# Altium footprint library CONNECTORS.PcbLib: 52 footprints (part 3 of 4)
Each footprint in its own frame and in the unit in brackets; x right, y up, seen from the top. Pads: shape width x height; smd on the part's side, far side on the other; paste and mask are expansions set on the pad; w line width, h text height; cw(c..) or ccw(c..) is an arc to the next point about the centre after c.
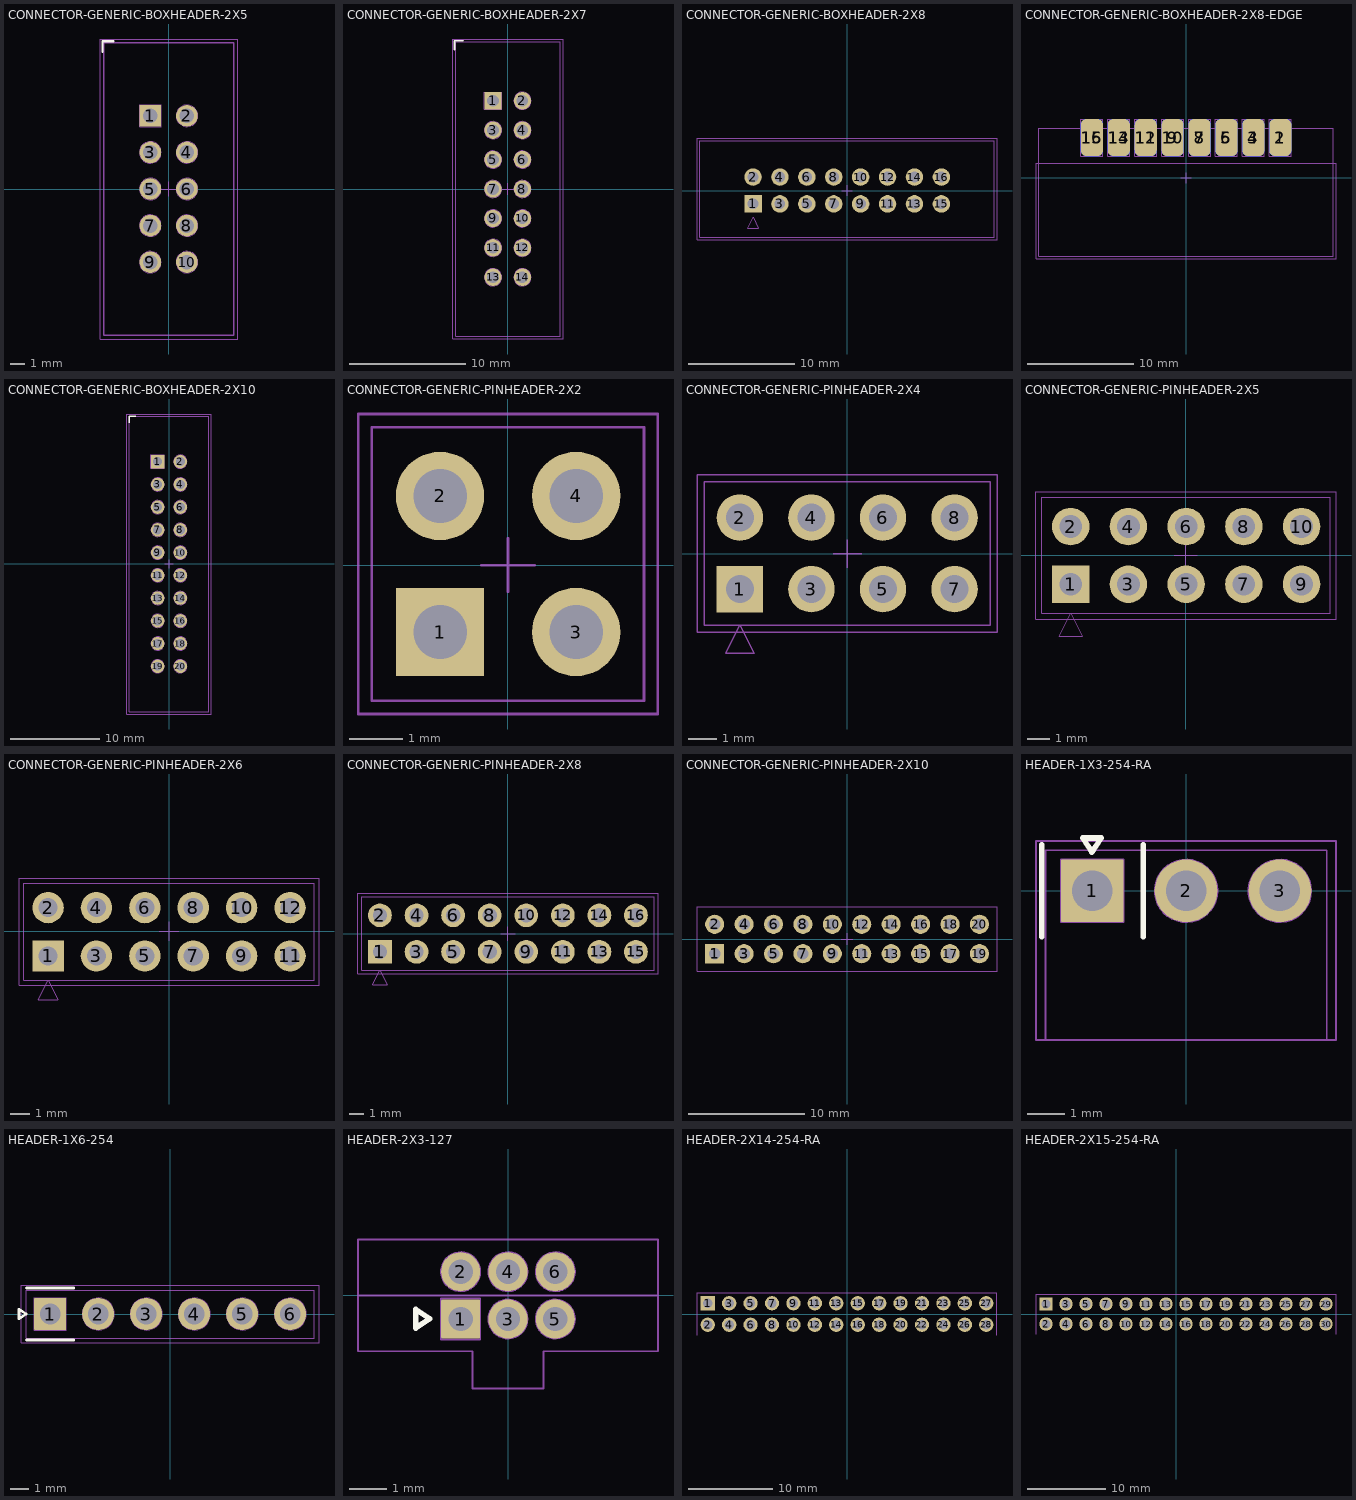
[diagram p2: the footprints below, top view; thin cyan lines are the x and y axes]

## CONNECTOR-GENERIC-BOXHEADER-2X5 [mm] "CONNECTOR GENERIC-BOXHEADER-2X5"
height 9.013
pads (10):
  rect 1.5x1.5 hole 1 mask+0.075: 1(-1.27,5.08)
  round 1.5 hole 1 mask+0.075: 2(1.27,5.08) 3(-1.27,2.54) 4(1.27,2.54) 5(-1.27,0) 6(1.27,0) 7(-1.27,-2.54) 8(1.27,-2.54) 9(-1.27,-5.08) 10(1.27,-5.08)
Top Overlay:
  lines w0.152: -4.6,9.51 -4.6,10.26 -3.85,10.26
Mechanical 13:
  circle w0.05: c-1.27,5.08 r0.5
  circle w0.05: c1.27,5.08 r0.75
  circle w0.05: c1.27,5.08 r0.5
  circle w0.05: c-1.27,2.54 r0.75
  circle w0.05: c-1.27,2.54 r0.5
  circle w0.05: c1.27,2.54 r0.75
  circle w0.05: c1.27,2.54 r0.5
  circle w0.05: c-1.27,0 r0.75
  circle w0.05: c-1.27,0 r0.5
  circle w0.05: c1.27,0 r0.75
  circle w0.05: c1.27,0 r0.5
  circle w0.05: c1.27,-2.54 r0.75
  circle w0.05: c1.27,-2.54 r0.5
  circle w0.05: c-1.27,-5.08 r0.75
  circle w0.05: c-1.27,-5.08 r0.5
  circle w0.05: c1.27,-5.08 r0.75
  circle w0.05: c1.27,-5.08 r0.5
  circle w0.05: c-1.27,-2.54 r0.75
  circle w0.05: c-1.27,-2.54 r0.5
  lines w0.05: -2.02,4.33 -0.52,4.33 -0.52,5.83 -2.02,5.83 -2.02,4.33
  lines w0.1: -4.5,-10.16 4.53,-10.16 4.53,10.16 -4.5,10.16 -4.5,-10.16
  text "1" at -2.02,4.33 h0.3
Mechanical 15:
  lines w0.05: -0.5,0 0,0 ; 0,-0.5 0,0 ; 0,0.5 0,0 ; 0.5,0 0,0 ; -4.75,-10.41 4.8,-10.41 4.8,10.41 -4.75,10.41 -4.75,-10.41
3D body "SBH11-PBPC-D05-ST-BK.STEP": height 9.11, standoff -2.98, extent -4.394,-10.096 4.699,10.096

## CONNECTOR-GENERIC-BOXHEADER-2X7 [mm] "CONNECTOR GENERIC-BOXHEADER-2X7"
height 9.013
pads (14):
  rect 1.5x1.5 hole 1 mask+0.075: 1(-1.27,7.62)
  round 1.5 hole 1 mask+0.075: 2(1.27,7.62) 3(-1.27,5.08) 4(1.27,5.08) 5(-1.27,2.54) 6(1.27,2.54) 7(-1.27,0) 8(1.27,0) 9(-1.27,-2.54) 10(1.27,-2.54) 11(-1.27,-5.08) 12(1.27,-5.08) 13(-1.27,-7.62) 14(1.27,-7.62)
Top Overlay:
  lines w0.152: -4.6,12.05 -4.6,12.8 -3.85,12.8
Mechanical 13:
  circle w0.05: c-1.27,7.62 r0.5
  circle w0.05: c1.27,7.62 r0.75
  circle w0.05: c1.27,7.62 r0.5
  circle w0.05: c-1.27,5.08 r0.75
  circle w0.05: c-1.27,5.08 r0.5
  circle w0.05: c1.27,5.08 r0.75
  circle w0.05: c1.27,5.08 r0.5
  circle w0.05: c-1.27,2.54 r0.75
  circle w0.05: c-1.27,2.54 r0.5
  circle w0.05: c1.27,2.54 r0.75
  circle w0.05: c1.27,2.54 r0.5
  circle w0.05: c1.27,0 r0.75
  circle w0.05: c1.27,0 r0.5
  circle w0.05: c-1.27,-2.54 r0.75
  circle w0.05: c-1.27,-2.54 r0.5
  circle w0.05: c1.27,-2.54 r0.75
  circle w0.05: c1.27,-2.54 r0.5
  circle w0.05: c-1.27,-5.08 r0.75
  circle w0.05: c-1.27,-5.08 r0.5
  circle w0.05: c1.27,-5.08 r0.75
  circle w0.05: c1.27,-5.08 r0.5
  circle w0.05: c-1.27,-7.62 r0.75
  circle w0.05: c-1.27,-7.62 r0.5
  circle w0.05: c1.27,-7.62 r0.75
  circle w0.05: c1.27,-7.62 r0.5
  circle w0.05: c-1.27,0 r0.75
  circle w0.05: c-1.27,0 r0.5
  lines w0.05: -2.02,6.87 -0.52,6.87 -0.52,8.37 -2.02,8.37 -2.02,6.87
  lines w0.1: -4.5,-12.7 4.53,-12.7 4.53,12.7 -4.5,12.7 -4.5,-12.7
  text "1" at -2.02,6.87 h0.3
  text ".DESIGNATOR" at -4.5,-12.7 h0.25
Mechanical 15:
  lines w0.05: -0.5,0 0,0 ; 0,-0.5 0,0 ; 0,0.5 0,0 ; 0.5,0 0,0 ; -4.75,-12.95 4.8,-12.95 4.8,12.95 -4.75,12.95 -4.75,-12.95
3D body "BOXHDR14.STEP": height 9.01, standoff -2.89, extent -4.5,-12.7 4.53,12.7

## CONNECTOR-GENERIC-BOXHEADER-2X8 [mm] "CONNECTOR GENERIC-BOXHEADER-2X8"
height 9.263
pads (16):
  rect 1.65x1.65 hole 1 mask+0.1: 1(-8.883,-1.258)
  round 1.65 hole 1 mask+0.1: 2(-8.883,1.282) 3(-6.343,-1.258) 4(-6.343,1.282) 5(-3.803,-1.258) 6(-3.803,1.282) 7(-1.263,-1.258) 8(-1.263,1.282) 9(1.277,-1.258) 10(1.277,1.282) 11(3.817,-1.258) 12(3.817,1.282) 13(6.357,-1.258) 14(6.357,1.282) 15(8.897,-1.258) 16(8.897,1.282)
Top Courtyard:
  lines w0.05: -0.5,0 0.5,0 ; 0,-0.5 0,0.5 ; -14.175,-4.65 -14.175,4.95 14.15,4.95 14.15,-4.65 -6.772,-4.65 -14.175,-4.65
Top Assembly:
  lines w0.05: -13.92,-4.4 -13.92,4.7 13.9,4.7 13.9,-4.4 -13.92,-4.4 ; -9.391,-3.544 -8.375,-3.544 -8.883,-2.528 -9.391,-3.544
3D body "sbh11-pbpc-d08-st-bk.stp": height 9.11, standoff -2.99, extent -13.92,-4.4 13.9,4.7

## CONNECTOR-GENERIC-BOXHEADER-2X8-EDGE [mm] "CONNECTOR GENERIC-BOXHEADER-2X8"
height 9.263
pads (16):
  rrect50% 2.08x3.5 smd paste-2539.97 mask+0.05: 1(8.89,3.81) 3(6.35,3.81) 5(3.81,3.81) 7(1.27,3.81) 9(-1.27,3.81) 11(-3.81,3.81) 13(-6.35,3.81) 15(-8.89,3.81)
  rrect50% 2.08x3.5 smd far side paste-2539.97 mask+0.05: 2(8.89,3.81) 4(6.35,3.81) 6(3.81,3.81) 8(1.27,3.81) 10(-1.27,3.81) 12(-3.81,3.81) 14(-6.35,3.81) 16(-8.89,3.81)
Top Courtyard:
  lines w0.05: -0.5,0 0,0 ; 0,-0.5 0,0 ; 0,0.5 0,0 ; 0.5,0 0,0 ; -14.17,-7.65 14.15,-7.65 14.15,1.4 -14.17,1.4 -14.17,-7.65
  text "BOARD EDGE" at 1.325,0.641 h1
Top Assembly:
  lines w0.05: -9.93,2.06 -9.93,5.56 ; -9.93,2.06 -7.85,2.06 ; -9.93,2.06 -7.85,2.06 ; -9.93,2.06 -9.93,5.56 ; -9.93,5.56 -7.85,5.56 ; -9.93,5.56 -7.85,5.56 ; -7.85,2.06 -7.85,5.56 ; -7.85,2.06 -7.85,5.56 ; -7.39,2.06 -7.39,5.56 ; -7.39,2.06 -5.31,2.06 ; -7.39,2.06 -5.31,2.06 ; -7.39,2.06 -7.39,5.56 ; -7.39,5.56 -5.31,5.56 ; -7.39,5.56 -5.31,5.56 ; -5.31,2.06 -5.31,5.56 ; -5.31,2.06 -5.31,5.56 ; -4.85,2.06 -4.85,5.56 ; -4.85,2.06 -2.77,2.06 ; -4.85,2.06 -2.77,2.06 ; -4.85,2.06 -4.85,5.56 ; -4.85,5.56 -2.77,5.56 ; -4.85,5.56 -2.77,5.56 ; -2.77,2.06 -2.77,5.56 ; -2.77,2.06 -2.77,5.56 ; -2.31,2.06 -2.31,5.56 ; -2.31,2.06 -0.23,2.06 ; -2.31,2.06 -0.23,2.06 ; -2.31,2.06 -2.31,5.56 ; -2.31,5.56 -0.23,5.56 ; -2.31,5.56 -0.23,5.56 ; -0.23,2.06 -0.23,5.56 ; -0.23,2.06 -0.23,5.56 ; 0.23,2.06 0.23,5.56 ; 0.23,2.06 2.31,2.06 ; 0.23,2.06 2.31,2.06 ; 0.23,2.06 0.23,5.56 ; 0.23,5.56 2.31,5.56 ; 0.23,5.56 2.31,5.56 ; 2.31,2.06 2.31,5.56 ; 2.31,2.06 2.31,5.56 ; 2.77,2.06 2.77,5.56 ; 2.77,2.06 4.85,2.06 ; 2.77,2.06 4.85,2.06 ; 2.77,2.06 2.77,5.56 ; 2.77,5.56 4.85,5.56 ; 2.77,5.56 4.85,5.56 ; 4.85,2.06 4.85,5.56 ; 4.85,2.06 4.85,5.56 ; 5.31,2.06 5.31,5.56 ; 5.31,2.06 7.39,2.06 ; 5.31,2.06 7.39,2.06 ; 5.31,2.06 5.31,5.56 ; 5.31,5.56 7.39,5.56 ; 5.31,5.56 7.39,5.56 ; 7.39,2.06 7.39,5.56 ; 7.39,2.06 7.39,5.56 ; 7.85,2.06 7.85,5.56 ; 7.85,2.06 9.93,2.06 ; 7.85,2.06 9.93,2.06 ; 7.85,2.06 7.85,5.56 ; 7.85,5.56 9.93,5.56 ; 7.85,5.56 9.93,5.56 ; 9.93,2.06 9.93,5.56 ; 9.93,2.06 9.93,5.56 ; -13.92,-7.4 13.9,-7.4 13.9,4.7 -13.92,4.7 -13.92,-7.4
3D body "sbh11-pbpc-d08-st-bk.stp": height 3.46, standoff -5.64, extent -13.92,-7.4 13.9,4.7

## CONNECTOR-GENERIC-BOXHEADER-2X10 [mm] "CONNECTOR GENERIC-BOXHEADER-2X10"
height 8.813
pads (20):
  rect 1.5x1.5 hole 1 mask+0.075: 1(-1.27,11.43)
  round 1.5 hole 1 mask+0.075: 2(1.27,11.43) 3(-1.27,8.89) 4(1.27,8.89) 5(-1.27,6.35) 6(1.27,6.35) 7(-1.27,3.81) 8(1.27,3.81) 9(-1.27,1.27) 10(1.27,1.27) 11(-1.27,-1.27) 12(1.27,-1.27) 13(-1.27,-3.81) 14(1.27,-3.81) 15(-1.27,-6.35) 16(1.27,-6.35) 17(-1.27,-8.89) 18(1.27,-8.89) 19(-1.27,-11.43) 20(1.27,-11.43)
Top Overlay:
  lines w0.152: -4.45,15.76 -4.45,16.51 -3.7,16.51
Mechanical 13:
  circle w0.05: c-1.27,-6.35 r0.5
  circle w0.05: c-1.27,-6.35 r0.75
  circle w0.05: c1.27,-6.35 r0.5
  circle w0.05: c1.27,-6.35 r0.75
  circle w0.05: c-1.27,-8.89 r0.5
  circle w0.05: c-1.27,-8.89 r0.75
  circle w0.05: c1.27,-8.89 r0.5
  circle w0.05: c1.27,-8.89 r0.75
  circle w0.05: c-1.27,-11.43 r0.5
  circle w0.05: c-1.27,-11.43 r0.75
  circle w0.05: c1.27,-11.43 r0.5
  circle w0.05: c1.27,-11.43 r0.75
  circle w0.05: c-1.27,3.81 r0.5
  circle w0.05: c-1.27,3.81 r0.75
  circle w0.05: c1.27,-3.81 r0.5
  circle w0.05: c1.27,-3.81 r0.75
  circle w0.05: c-1.27,-3.81 r0.5
  circle w0.05: c-1.27,-3.81 r0.75
  circle w0.05: c1.27,-1.27 r0.5
  circle w0.05: c1.27,-1.27 r0.75
  circle w0.05: c-1.27,-1.27 r0.5
  circle w0.05: c-1.27,-1.27 r0.75
  circle w0.05: c1.27,1.27 r0.5
  circle w0.05: c1.27,1.27 r0.75
  circle w0.05: c-1.27,1.27 r0.5
  circle w0.05: c-1.27,1.27 r0.75
  circle w0.05: c1.27,3.81 r0.5
  circle w0.05: c1.27,3.81 r0.75
  circle w0.05: c1.27,6.35 r0.5
  circle w0.05: c1.27,6.35 r0.75
  circle w0.05: c-1.27,6.35 r0.5
  circle w0.05: c-1.27,6.35 r0.75
  circle w0.05: c1.27,8.89 r0.5
  circle w0.05: c1.27,8.89 r0.75
  circle w0.05: c-1.27,8.89 r0.5
  circle w0.05: c-1.27,8.89 r0.75
  circle w0.05: c1.27,11.43 r0.5
  circle w0.05: c1.27,11.43 r0.75
  circle w0.05: c-1.27,11.43 r0.5
  lines w0.05: -2.02,10.68 -2.02,12.18 -0.52,12.18 -0.52,10.68 -2.02,10.68
  lines w0.1: -4.45,-16.51 -4.45,16.51 4.45,16.51 4.45,-16.51 -4.45,-16.51
  text "1" at -2.02,10.68 h0.3
Mechanical 15:
  lines w0.05: -0.5,0 0,0 ; 0,-0.5 0,0 ; 0,0.5 0,0 ; 0.5,0 0,0 ; -4.7,-16.765 -4.7,16.76 4.7,16.76 4.7,-16.765 -4.7,-16.765
3D body "boxheader20.STEP": height 8.81, standoff -3.03, extent -4.45,-16.51 4.45,16.51

## CONNECTOR-GENERIC-PINHEADER-2X2 [mm] "CONNECTOR GENERIC-PINHEADER-2X2"
height 9.263
pads (4):
  rect 1.65x1.65 hole 1 mask+0.1: 1(-1.267,-1.249)
  round 1.65 hole 1 mask+0.1: 2(-1.267,1.291) 3(1.273,-1.249) 4(1.273,1.291)
Top Courtyard:
  lines w0.05: -2.792,-2.779 -1.017,-2.779 2.795,-2.779 2.795,2.821 -2.792,2.821 -2.792,-2.779
Top Assembly:
  lines w0.05: -2.542,-2.529 2.54,-2.529 2.54,2.571 -2.542,2.571 -2.542,-2.529
Mechanical 15:
  lines w0.05: -0.499,-0.004 0.501,-0.004 ; 0.001,-0.5 0.001,0.5
3D body "header2x2.STEP": height 9.26, standoff -2.89, extent -2.539,-2.54 2.541,2.54

## CONNECTOR-GENERIC-PINHEADER-2X4 [mm] "CONNECTOR GENERIC-PINHEADER-2X4"
height 9.263
pads (8):
  rect 1.65x1.65 hole 1 mask+0.1: 1(-3.818,-1.259)
  round 1.65 hole 1 mask+0.1: 2(-3.818,1.281) 3(-1.278,-1.259) 4(-1.278,1.281) 5(1.262,-1.259) 6(1.262,1.281) 7(3.802,-1.259) 8(3.802,1.281)
Top Courtyard:
  lines w0.05: -0.497,-0.001 0.503,-0.001 ; 0.001,-0.499 0.001,0.501 ; -5.343,-2.789 -5.343,2.811 5.31,2.811 5.31,-2.789 -3.568,-2.789 -5.343,-2.789
Top Assembly:
  lines w0.05: -5.093,-2.539 5.07,-2.539 5.07,2.561 -5.093,2.561 -5.093,-2.539 ; -4.326,-3.545 -3.818,-2.529 -3.31,-3.545 -4.326,-3.545
3D body "header2x4.STEP": height 9.26, standoff -2.89, extent -5.079,-2.537 5.081,2.543

## CONNECTOR-GENERIC-PINHEADER-2X5 [mm] "CONNECTOR GENERIC-PINHEADER-2X5"
height 9.263
pads (10):
  rect 1.65x1.65 hole 1 mask+0.1: 1(-5.067,-1.279)
  round 1.65 hole 1 mask+0.1: 2(-5.067,1.261) 3(-2.527,-1.279) 4(-2.527,1.261) 5(0.013,-1.279) 6(0.013,1.261) 7(2.553,-1.279) 8(2.553,1.261) 9(5.09,-1.277) 10(5.093,1.261)
Top Assembly:
  lines w0.05: -6.342,-2.559 6.362,-2.559 6.362,2.541 -6.342,2.541 -6.342,-2.559 ; -5.575,-3.565 -5.067,-2.549 -4.559,-3.565 -5.575,-3.565
Mechanical 15:
  lines w0.05: -0.501,0 0.499,0 ; -0.002,-0.5 -0.002,0.5 ; -6.592,-2.809 -4.817,-2.809 6.607,-2.809 6.607,2.791 -6.592,2.791 -6.592,-2.809
3D body "header2x5.STEP": height 9.26, standoff -2.89, extent -6.351,-2.54 6.349,2.54

## CONNECTOR-GENERIC-PINHEADER-2X6 [mm] "CONNECTOR GENERIC-PINHEADER-2X6"
height 9.263
pads (12):
  rect 1.65x1.65 hole 1 mask+0.1: 1(-6.347,-1.293)
  round 1.65 hole 1 mask+0.1: 2(-6.347,1.247) 3(-3.807,-1.293) 4(-3.807,1.247) 5(-1.267,-1.293) 6(-1.267,1.247) 7(1.273,-1.293) 8(1.273,1.247) 9(3.813,-1.293) 10(3.813,1.247) 11(6.353,-1.293) 12(6.353,1.247)
Top Courtyard:
  lines w0.05: -0.499,0.001 0.501,0.001 ; 0.001,-0.499 0.001,0.501 ; -7.872,-2.823 -7.872,2.777 7.872,2.777 7.872,-2.823 -6.097,-2.823 -7.872,-2.823
Top Assembly:
  lines w0.05: -7.622,-2.573 -7.622,2.527 7.622,2.527 7.622,-2.573 -7.622,-2.573 ; -6.855,-3.579 -5.839,-3.579 -6.347,-2.563 -6.855,-3.579
3D body "header2x6.STEP": height 9.26, standoff -2.89, extent -7.619,-2.541 7.621,2.539

## CONNECTOR-GENERIC-PINHEADER-2X8 [mm] "CONNECTOR GENERIC-PINHEADER-2X8"
height 9.263
pads (16):
  rect 1.65x1.65 hole 1 mask+0.1: 1(-8.883,-1.258)
  round 1.65 hole 1 mask+0.1: 2(-8.883,1.282) 3(-6.343,-1.258) 4(-6.343,1.282) 5(-3.803,-1.258) 6(-3.803,1.282) 7(-1.263,-1.258) 8(-1.263,1.282) 9(1.277,-1.258) 10(1.277,1.282) 11(3.817,-1.258) 12(3.817,1.282) 13(6.357,-1.258) 14(6.357,1.282) 15(8.897,-1.258) 16(8.897,1.282)
Top Courtyard:
  lines w0.05: -0.5,0 0.5,0 ; 0,-0.5 0,0.5 ; -10.408,-2.788 -8.633,-2.788 10.427,-2.788 10.427,2.812 -10.408,2.812 -10.408,-2.788
Top Assembly:
  lines w0.05: -10.158,-2.538 10.167,-2.538 10.167,2.562 -10.158,2.562 -10.158,-2.538 ; -9.391,-3.544 -8.883,-2.528 -8.375,-3.544 -9.391,-3.544
3D body "header2x8.STEP": height 9.26, standoff -2.89, extent -10.16,-2.54 10.16,2.54

## CONNECTOR-GENERIC-PINHEADER-2X10 [mm] "CONNECTOR GENERIC-PINHEADER-2X10"
height 9.263
pads (20):
  rect 1.65x1.65 hole 1 mask+0.1: 1(-11.442,-1.254)
  round 1.65 hole 1 mask+0.1: 2(-11.442,1.286) 3(-8.902,-1.254) 4(-8.902,1.286) 5(-6.362,-1.254) 6(-6.362,1.286) 7(-3.822,-1.254) 8(-3.822,1.286) 9(-1.282,-1.254) 10(-1.282,1.286) 11(1.258,-1.254) 12(1.258,1.286) 13(3.798,-1.254) 14(3.798,1.286) 15(6.338,-1.254) 16(6.338,1.286) 17(8.878,-1.254) 18(8.878,1.286) 19(11.418,-1.254) 20(11.418,1.286)
Top Courtyard:
  lines w0.05: -0.5,0 0.5,0 ; 0,-0.5 0,0.5 ; -12.967,-2.784 -12.967,2.816 12.933,2.816 12.933,-2.784 -11.192,-2.784 -12.967,-2.784
3D body "header2x10.STEP": height 9.26, standoff -2.89, extent -12.7,-2.54 12.7,2.54

## HEADER-1X3-254-RA [mm]
pads (3):
  rrect5% 1.7x1.7 hole 1.1 mask+0.05: 1(-2.54,0)
  round 1.7 hole 1.1 mask+0.05: 2(0,0) 3(2.54,0)
Top Overlay:
  lines w0.15: -3.915,-1.25 -3.915,0 -3.915,1.25 ; -1.165,-1.25 -1.165,0 -1.165,1.25 ; -2.8,1.43 -2.3,1.43 -2.55,1.05 -2.8,1.43
Top Courtyard:
  lines w0.05: -4.065,-4.04 -4.065,1.35 4.06,1.35 4.06,-4.04 -4.065,-4.04
Top Assembly:
  circle w0.05: c2.54,0 r0.535
  circle w0.05: c2.54,0 r0.85
  circle w0.05: c0,0 r0.535
  circle w0.05: c0,0 r0.85
  circle w0.05: c-2.54,0 r0.551
  lines w0.05: -3.81,-4.04 3.81,-4.04 3.81,1.1 -3.81,1.1 -3.81,-4.04 ; -3.39,-0.85 -1.69,-0.85 -1.69,0.85 -2.54,0.85 -3.39,0.85 -3.39,-0.85
3D body "61300311021_Download_STP_61300311021_rev1.stp": height 2.55, standoff -2.99, extent -3.81,-10.04 3.81,0.32

## HEADER-1X6-254 [mm]
pads (6):
  rrect5% 1.7x1.7 hole 1.1 mask+0.05: 1(-6.35,0)
  round 1.7 hole 1.1 mask+0.05: 2(-3.81,0) 3(-1.27,0) 4(1.27,0) 5(3.81,0) 6(6.35,0)
Top Overlay:
  lines w0.15: -7.6,-1.375 -6.35,-1.375 -5.1,-1.375 ; -7.6,1.375 -6.35,1.375 -5.1,1.375 ; -8,-0.25 -8,0.25 -7.62,0 -8,-0.25
Top Courtyard:
  lines w0.05: -7.875,-1.525 -7.875,1.525 7.875,1.525 7.875,-1.525 -7.875,-1.525
Top Assembly:
  circle w0.05: c6.35,0 r0.535
  circle w0.05: c6.35,0 r0.85
  circle w0.05: c3.81,0 r0.535
  circle w0.05: c3.81,0 r0.85
  circle w0.05: c1.27,0 r0.535
  circle w0.05: c1.27,0 r0.85
  circle w0.05: c-1.27,0 r0.535
  circle w0.05: c-1.27,0 r0.85
  circle w0.05: c-3.81,0 r0.535
  circle w0.05: c-3.81,0 r0.85
  circle w0.05: c-6.35,0 r0.551
  lines w0.05: -7.62,-1.27 7.62,-1.27 7.62,1.27 -7.62,1.27 -7.62,-1.27 ; -7.2,-0.85 -5.5,-0.85 -5.5,0.85 -6.35,0.85 -7.2,0.85 -7.2,-0.85
3D body "61300611121_Download_STP_61300611121_rev1.stp": height 8.55, standoff -2.99, extent -7.62,-1.27 7.62,1.27

## HEADER-2X3-127 [mm]
pads (6):
  rrect9% 1.05x1.05 hole 0.65 mask+0.05: 1(-1.27,-0.635)
  round 1.05 hole 0.65 mask+0.05: 2(-1.27,0.635) 3(0,-0.635) 4(0,0.635) 5(1.27,-0.635) 6(1.27,0.635)
Top Overlay:
  lines w0.15: -2.48,-0.875 -2.48,-0.375 -2.1,-0.625 -2.48,-0.875
Top Courtyard:
  lines w0.05: -4.025,0 -4.025,-1.5 -0.95,-1.5 -0.95,-2.5 0.95,-2.5 0.95,-1.5 4.025,-1.5 4.025,0 ; -4.025,0 0,0 4.025,0 ; -4.025,0 -4.025,1.5 4.025,1.5 4.025,0
Top Assembly:
  circle w0.05: c0,-0.635 r0.525
  circle w0.05: c1.27,-0.635 r0.525
  circle w0.05: c1.27,0.635 r0.525
  circle w0.05: c0,0.635 r0.526
  circle w0.05: c-1.27,0.635 r0.526
  circle w0.05: c-1.27,0.635 r0.32
  circle w0.05: c-1.27,-0.635 r0.32
  circle w0.05: c0,-0.635 r0.32
  circle w0.05: c0,0.635 r0.32
  circle w0.05: c1.27,0.635 r0.32
  circle w0.05: c1.27,-0.635 r0.32
  lines w0.05: -1.795,-1.185 -1.795,-0.085 -1.27,-0.085 -0.745,-0.085 -0.745,-1.185 -1.795,-1.185
3D body "HPH2-A-06-UA.STEP": height 3.81, standoff -2.49, extent -1.905,-1.725 1.905,1.725

## HEADER-2X14-254-RA [mm]
pads (28):
  rrect5% 1.7x1.7 hole 1.1 mask+0.05: 1(-16.51,1.27)
  round 1.7 hole 1.1 mask+0.05: 2(-16.51,-1.27) 3(-13.97,1.27) 4(-13.97,-1.27) 5(-11.43,1.27) 6(-11.43,-1.27) 7(-8.89,1.27) 8(-8.89,-1.27) 9(-6.35,1.27) 10(-6.35,-1.27) 11(-3.81,1.27) 12(-3.81,-1.27) 13(-1.27,1.27) 14(-1.27,-1.27) 15(1.27,1.27) 16(1.27,-1.27) 17(3.81,1.27) 18(3.81,-1.27) 19(6.35,1.27) 20(6.35,-1.27) 21(8.89,1.27) 22(8.89,-1.27) 23(11.43,1.27) 24(11.43,-1.27) 25(13.97,1.27) 26(13.97,-1.27) 27(16.51,1.27) 28(16.51,-1.27)
Top Assembly:
  lines w0.05: -17.78,-2.54 -17.78,2.54 17.78,2.54 17.78,-2.54

## HEADER-2X15-254-RA [mm]
pads (30):
  rrect5% 1.7x1.7 hole 1.1 mask+0.05: 1(-16.51,1.27)
  round 1.7 hole 1.1 mask+0.05: 2(-16.51,-1.27) 3(-13.97,1.27) 4(-13.97,-1.27) 5(-11.43,1.27) 6(-11.43,-1.27) 7(-8.89,1.27) 8(-8.89,-1.27) 9(-6.35,1.27) 10(-6.35,-1.27) 11(-3.81,1.27) 12(-3.81,-1.27) 13(-1.27,1.27) 14(-1.27,-1.27) 15(1.27,1.27) 16(1.27,-1.27) 17(3.81,1.27) 18(3.81,-1.27) 19(6.35,1.27) 20(6.35,-1.27) 21(8.89,1.27) 22(8.89,-1.27) 23(11.43,1.27) 24(11.43,-1.27) 25(13.97,1.27) 26(13.97,-1.27) 27(16.51,1.27) 28(16.51,-1.27) 29(19.05,1.27) 30(19.05,-1.27)
Top Assembly:
  lines w0.05: -17.78,-2.54 -17.78,2.54 20.32,2.54 20.32,-2.54